# EAGLE library part ADS1115BQDGSRQ1 (library texas-instruments-ads1115)
ADS111x-Q1 Automotive, Low-Power, I 2C-Compatible, 860-SPS, 16-Bit ADCs With Internal Reference, Oscillator, and Programmable Comparator
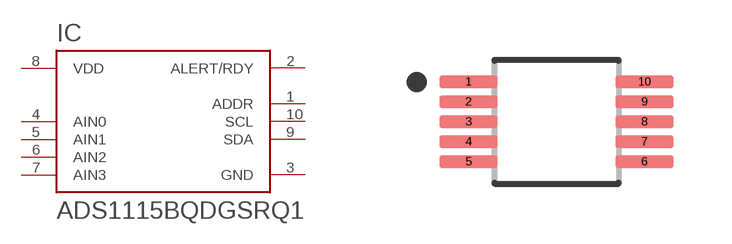
[diagram p0: symbol with the pads of ADS1115BQDGSRQ1; footprint ADS1115BQDGSRQ1]

Designator prefix IC

## ADS1115BQDGSRQ1TEXAS_INSTRUMENTS_ADS1115BQDGSRQ1_0_0 (DATASHEET: http://www.ti.com/lit/ds/symlink/ads1115-q1.pdf; DIGIKEY_DESCRIPTION: IC 16 Bit Analog to Digital Converter 2, 4 Input 1 Sigma-Delta 10-VSSOP; DIGIKEY_PART_NUMBER: 296-45221-1-ND; FARNELL_PART_NUMBER: 3004295; MF: Texas Instruments; MFG_PACKAGE_IDENT: DGS (S-PDSO-G10); MOUSER_PART_NUMBER: 595-ADS1115BQDGSRQ1; MPN: ADS1115BQDGSRQ1; PACKAGE: VSSOP10; ROHS: yes)  [ADS1115BQDGSRQ1]
1  ADDR
2  ALERT/RDY
3  GND
4  AIN0
5  AIN1
6  AIN2
7  AIN3
8  VDD
9  SDA
10  SCL

## Footprint ADS1115BQDGSRQ1 (pad centres in mm)
ADS111x-Q1 Automotive, Low-Power, I 2C-Compatible, 860-SPS, 16-Bit ADCs With Internal Reference, Oscillator, and Programmable Comparator
smd 1.45 x 0.3: 1 -2.2,1; 2 -2.2,0.5; 3 -2.2,0; 4 -2.2,-0.5; 5 -2.2,-1; 6 2.2,-1; 7 2.2,-0.5; 8 2.2,0; 9 2.2,0.5; 10 2.2,1